# Altium footprint library BNC.PcbLib: 2 footprints
Each footprint in its own frame and in the unit in brackets; x right, y up, seen from the top. Pads: shape width x height; smd on the part's side, far side on the other; paste and mask are expansions set on the pad; w line width, h text height; cw(c..) or ccw(c..) is an arc to the next point about the centre after c.
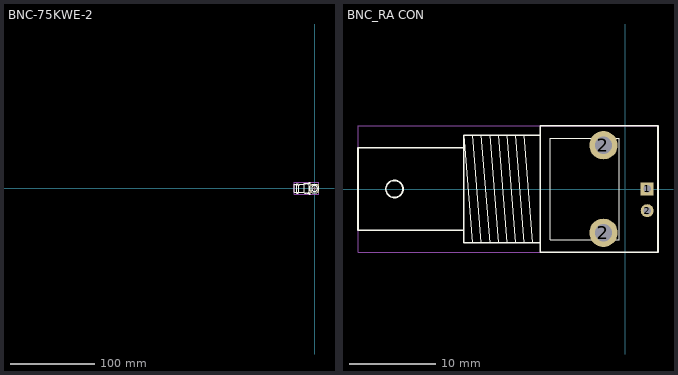
[diagram p0: the footprints below, top view; thin cyan lines are the x and y axes]

## BNC-75KWE-2 [mm] "BNC连接器, 型号BNC-75KWE-2"
height 17.2
pads (5):
  round 2.5 hole 1.5: 1(0,0) 2(-4,-4) 2(-4,4) 2(4,-4) 2(4,4)
Top Overlay:
  drawing of 328 lines, arcs and shapes, not listed
Mechanical 13:
  lines w0.05: -24.001,-7 -24.001,7 5.004,7 5.004,-7 -24.001,-7
Mechanical 15:
  lines w0.2: -2,0 2,0 ; 0,-2 0,2
3D body: height 17.26, standoff -3.71, extent -24.001,-7 5.004,7

## BNC_RA CON [mm] "Connector; BNC Elbow; Molex 731000090"
height 13.16
pads (4):
  rect 1.5x1.5 hole 0.9: 1(2.545,0.02)
  round 3.3 hole 2: 2(-2.545,-5.1) 2(-2.545,5.1)
  round 1.5 hole 0.9: 2(2.545,-2.52)
Top Overlay:
  circle w0.2: c-26.879,0 r1
  lines w0.025: -17.811,-6.25 -18.811,6.25 ; -17.811,6.25 -16.811,-6.25 ; -16.811,6.25 -15.811,-6.25 ; -15.811,6.25 -14.811,-6.25 ; -14.811,6.25 -13.811,-6.25 ; -13.811,6.25 -12.811,-6.25 ; -12.811,6.25 -11.811,-6.25 ; -11.811,6.25 -10.811,-6.25 ; -9.911,-7.379 -9.911,-6.25 ; -9.911,7.379 -9.911,6.25 ; -18.811,6.25 -9.911,6.25 ; -18.811,6.25 -18.811,4.8 -18.811,-4.8 -18.811,-6.25 -9.911,-6.25 ; -9.911,-6.25 -9.911,6.25 ; -8.711,-5.9 -8.711,5.9 -0.711,5.9 -0.711,-5.9 -8.711,-5.9
  lines w0.2: -18.811,-4.8 -18.811,-6.25 -9.911,-6.25 ; -18.811,-4.8 -31.121,-4.8 -31.121,4.8 -18.811,4.8 ; -18.811,-4.8 -18.811,4.8 ; -18.811,4.8 -18.811,6.25 -9.911,6.25 ; -9.911,-6.25 -9.911,-7.379 3.805,-7.379 3.805,7.379 -9.911,7.379 -9.911,6.25 ; -9.911,-6.25 -9.911,6.25
Mechanical 13:
  lines w0.1: -31.12,-7.379 -31.12,7.378 3.805,7.378 3.805,-7.379 -31.12,-7.379
3D body: height 13.18, standoff -4.11, extent -31.12,-7.379 3.805,7.383